# EAGLE library part HEADER-1X09 (library magzor)
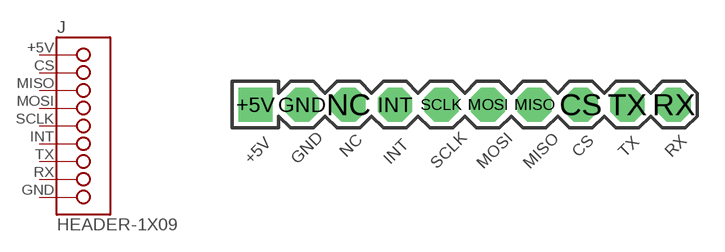
[diagram p14: symbol with the pads of HEADER-1X10-MCP2515-BREAKOUT; footprint HEADER-1X10-MCP2515-BREAKOUT]

Designator prefix J

## HEADER-1X09-MCP2515-BREAKOUT  [HEADER-1X10-MCP2515-BREAKOUT]
+5V  1
CS  2
GND  9
INT  6
MISO  3
MOSI  4
RX  8
SCLK  5
TX  7

## Footprint HEADER-1X10-MCP2515-BREAKOUT (pad centres in mm)
drill 1.016 pad 1.88 square: +5V -11.43,0
drill 1.016 pad 1.88 octagon: CS 6.35,0; GND -8.89,0; INT -3.81,0; MISO 3.81,0; MOSI 1.27,0; NC -6.35,0; RX 11.43,0; SCLK -1.27,0; TX 8.89,0